# Altium footprint library Connector.PcbLib: 45 footprints (part 2 of 3)
Each footprint in its own frame and in the unit in brackets; x right, y up, seen from the top. Pads: shape width x height; smd on the part's side, far side on the other; paste and mask are expansions set on the pad; w line width, h text height; cw(c..) or ccw(c..) is an arc to the next point about the centre after c.
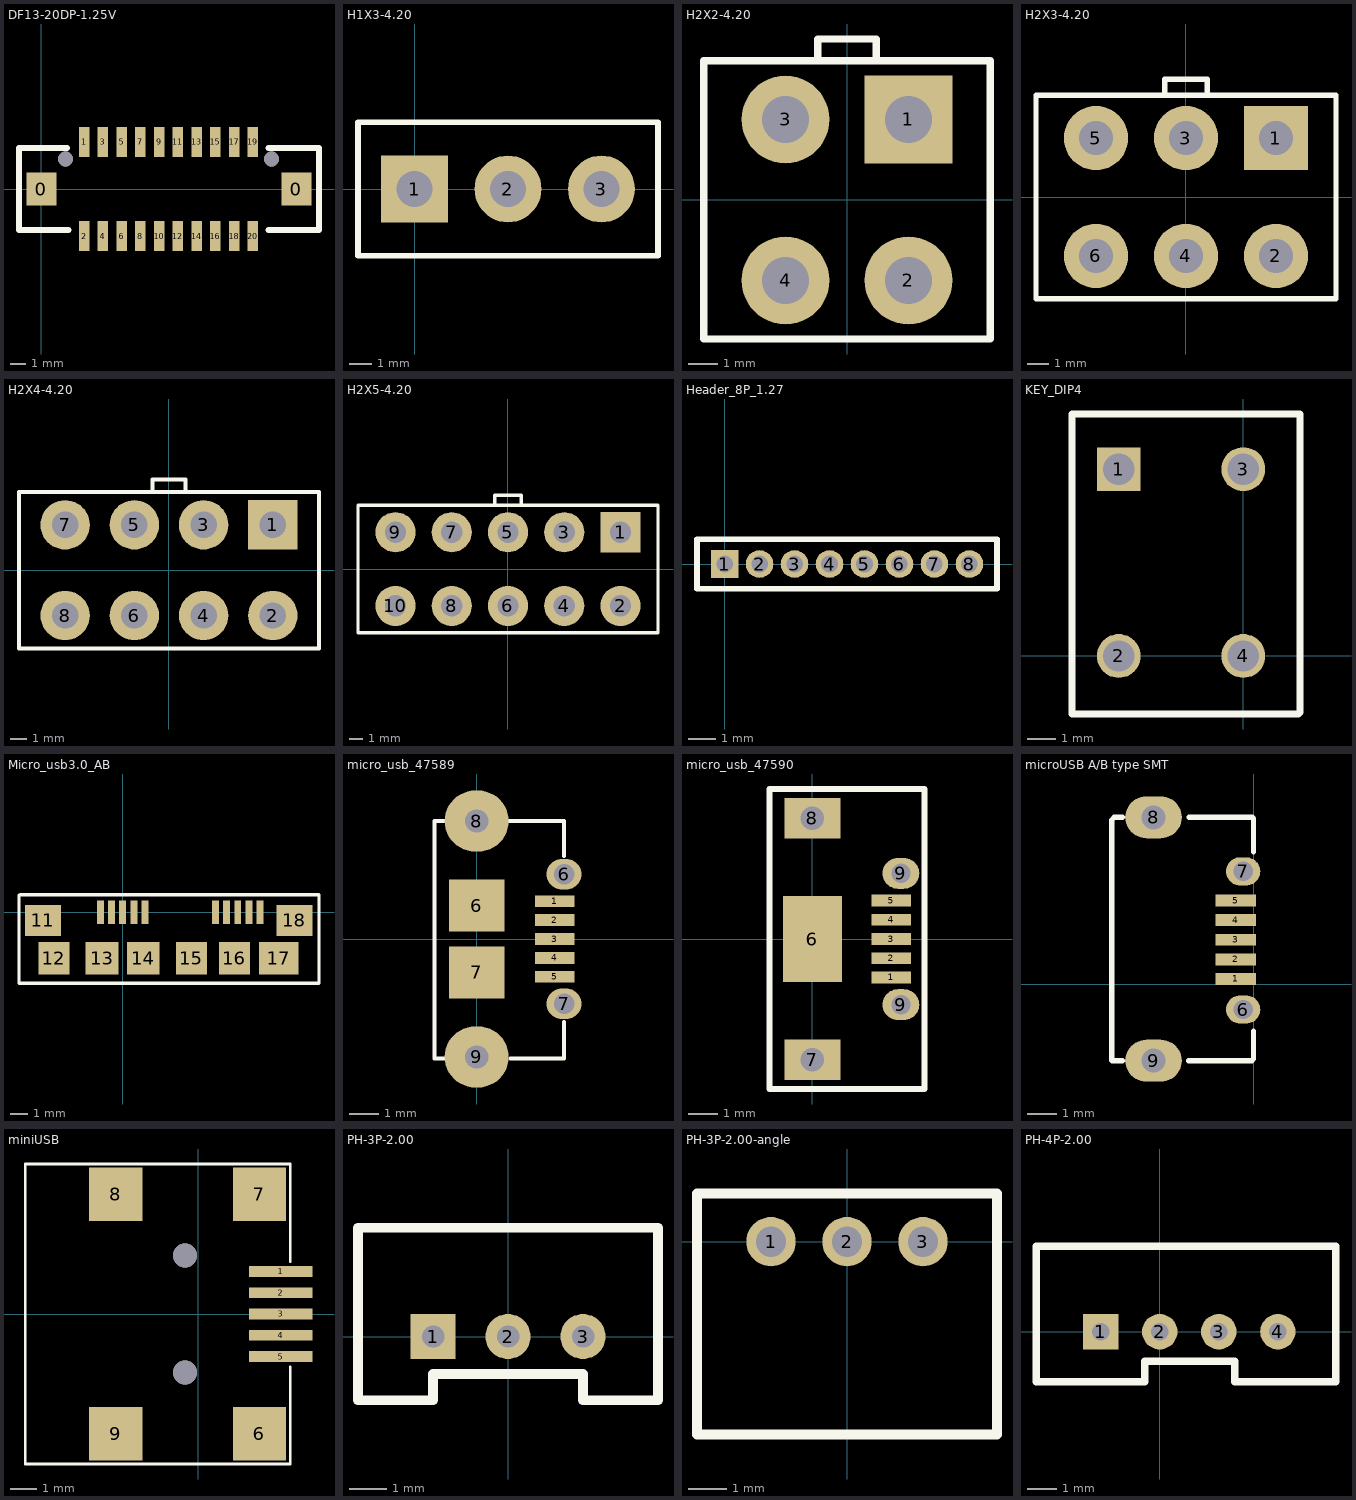
[diagram p1: the footprints below, top view; thin cyan lines are the x and y axes]

## DF13-20DP-1.25V [mm]
pads (22):
  rect 2x2.2 smd: 0(0,0) 0(17,0)
  rect 0.7x2 smd: 1(2.85,3.15) 2(2.85,-3.15) 3(4.1,3.15) 4(4.1,-3.15) 5(5.35,3.15) 6(5.35,-3.15) 7(6.6,3.15) 8(6.6,-3.15) 9(7.85,3.15) 10(7.85,-3.15) 11(9.1,3.15) 12(9.1,-3.15) 13(10.35,3.15) 14(10.35,-3.15) 15(11.6,3.15) 16(11.6,-3.15) 17(12.85,3.15) 18(12.85,-3.15) 19(14.1,3.15) 20(14.1,-3.15)
via 15.35,2 diameter 1 hole 1
via 1.6,2 diameter 1 hole 1
Top Overlay:
  lines w0.4: 1.7,2.75 -1.5,2.75 -1.5,-2.75 1.8,-2.75 ; 15.15,-2.75 18.5,-2.75 18.5,2.75 15.15,2.75

## H1X3-4.20 [mm]
pads (3):
  rect 3x3 hole 1.6: 1(0,0)
  round 3 hole 1.6: 2(4.2,0) 3(8.4,0)
Top Overlay:
  lines w0.254: -2.54,-3 -2.54,3 10.94,3 10.94,-3 -2.54,-3

## H2X2-4.20 [mm]
pads (4):
  rect 3x3 hole 1.6: 1(2.1,2.75)
  round 3 hole 1.6: 2(2.1,-2.75) 3(-2.1,2.75) 4(-2.1,-2.75)
Top Overlay:
  lines w0.254: -1,4.75 -1,5.5 1,5.5 1,4.75 ; -4.9,-4.75 4.9,-4.75 4.9,4.75 -4.9,4.75 -4.9,-4.75

## H2X3-4.20 [mm]
pads (6):
  rect 3x3 hole 1.6: 1(4.2,2.75)
  round 3 hole 1.6: 2(4.2,-2.75) 3(0,2.75) 4(0,-2.75) 5(-4.2,2.75) 6(-4.2,-2.75)
Top Overlay:
  lines w0.254: -1,4.75 -1,5.5 1,5.5 1,4.75 ; -7,-4.75 -7,4.75 7,4.75 7,-4.75 -7,-4.75

## H2X4-4.20 [mm]
pads (8):
  rect 3x3 hole 1.6: 1(6.3,2.75)
  round 3 hole 1.6: 2(6.3,-2.75) 3(2.1,2.75) 4(2.1,-2.75) 5(-2.1,2.75) 6(-2.1,-2.75) 7(-6.3,2.75) 8(-6.3,-2.75)
Top Overlay:
  lines w0.254: -1,4.75 -1,5.5 1,5.5 1,4.75 ; -9.1,-4.75 -9.1,4.75 9.1,4.75 9.1,-4.75 -9.1,-4.75

## H2X5-4.20 [mm]
pads (10):
  rect 3x3 hole 1.6: 1(8.4,2.75)
  round 3 hole 1.6: 2(8.4,-2.75) 3(4.2,2.75) 4(4.2,-2.75) 5(0,2.75) 6(0,-2.75) 7(-4.2,2.75) 8(-4.2,-2.75) 9(-8.4,2.75) 10(-8.4,-2.75)
Top Overlay:
  lines w0.254: -1,4.75 -1,5.5 1,5.5 1,4.75 ; -11.2,-4.75 -11.2,4.75 11.2,4.75 11.2,-4.75 -11.2,-4.75

## Header_8P_1.27 [mm]
pads (8):
  rect 1x1 hole 0.6: 1(0,0)
  round 1 hole 0.6: 2(1.27,0) 3(2.54,0) 4(3.81,0) 5(5.08,0) 6(6.35,0) 7(7.62,0) 8(8.89,0)
Top Overlay:
  lines w0.203: -1,-0.9 9.89,-0.9 9.89,0.9 -1,0.9 -1,-0.9

## KEY_DIP4 [mm]
pads (4):
  rect 1.55x1.55 hole 1.1: 1(-4.4,6.6)
  round 1.55 hole 1.1: 2(-4.4,0) 3(0,6.6) 4(0,0)
Top Overlay:
  lines w0.254: 1.275,-2.05 1.95,-2.05 2,-2 2,8.55 1.425,8.55 -6.05,8.55 -6.05,-2.05 1.575,-2.05

## Micro_usb3.0_AB [mm]
pads (18):
  rect 0.4x1.35 smd: 1(-1.3,0) 2(-0.65,0) 3(0,0) 4(0.65,0) 5(1.3,0) 6(5.4,0) 7(6.05,0) 8(6.7,0) 9(7.35,0) 10(8,0)
  rect 2.1x1.8 smd: 11(-4.65,-0.475) 18(10,-0.475)
  rect 1.8x1.9 smd: 12(-4,-2.675) 15(4,-2.675) 16(6.5,-2.675)
  rect 1.9x1.9 smd: 13(-1.2,-2.675) 14(1.2,-2.675)
  rect 2.3x1.9 smd: 17(9.1,-2.675)
Top Overlay:
  lines w0.203: -6.035,-4.125 11.43,-4.125 11.43,1.016 -5.974,1.016 -6.035,0.955 -6.035,-4.125

## micro_usb_47589 [mm]
pads (11):
  rect 1.35x0.4 smd: 1(2.675,1.3) 2(2.675,0.65) 3(2.675,0) 4(2.675,-0.65) 5(2.675,-1.3)
  rect 1.9x1.8 smd: 6(0,1.15) 7(0,-1.15)
  oval 1.2x1.05 hole 0.7: 6(3,2.225) 7(3,-2.225)
  oval 2.2x2.1 hole 0.8: 8(0,4.05) 9(0,-4.05)
Top Overlay:
  lines w0.127: -1.05,-4.1 -1.45,-4.1 -1.45,4.05 -1.05,4.05 ; 1.05,4.05 3,4.05 3,2.85 ; 1.15,-4.1 3,-4.1 3,-2.85

## micro_usb_47590 [mm]
pads (10):
  rect 1.35x0.4 smd: 1(2.675,-1.3) 2(2.675,-0.65) 3(2.675,0) 4(2.675,0.65) 5(2.675,1.3)
  rect 2x2.9 smd: 6(0,0)
  rect 1.9x1.375 hole 0.8: 7(0,-4.088) 8(0,4.088)
  oval 1.25x1.05 hole 0.65: 9(3,-2.225) 9(3,2.225)
Top Overlay:
  lines w0.2: -1.45,-5.08 -1.45,5.08 3.8,5.08 3.8,-5.08 -1.45,-5.08

## microUSB A/B type SMT [mm]
pads (9):
  rect 1.35x0.4 smd: 1(-0.6,0.175) 2(-0.6,0.831) 3(-0.6,1.488) 4(-0.6,2.144) 5(-0.6,2.8)
  oval 1.15x0.95 hole 0.65: 6(-0.35,-0.85) 7(-0.35,3.775)
  oval 1.9x1.4 hole 0.8: 8(-3.35,5.587) 9(-3.35,-2.563)
Top Overlay:
  lines w0.177: -4.675,5.575 -4.75,5.5 -4.75,-2.551 -4.738,-2.563 -4.4,-2.563 ; -4.663,5.587 -4.4,5.587 ; -2.175,-2.563 -0.062,-2.563 0,-2.501 0,-1.575 ; -2.15,5.587 -0.038,5.587 0,5.549 0,4.425

## miniUSB [mm]
pads (9):
  rect 2.4x0.4 smd: 1(3.1,1.6) 2(3.1,0.8) 3(3.1,0) 4(3.1,-0.8) 5(3.1,-1.6)
  rect 2x2 smd: 6(2.3,-4.5) 7(2.3,4.5) 8(-3.1,4.5) 9(-3.1,-4.5)
via -0.5,-2.2 diameter 0.9 hole 0.9
via -0.5,2.2 diameter 0.9 hole 0.9
Top Overlay:
  lines w0.1: 3.454,-1.981 3.454,-5.639 -6.5,-5.639 -6.5,5.639 3.454,5.639 3.454,1.974

## PH-3P-2.00 [mm]
pads (3):
  rect 1.2x1.2 hole 0.6: 1(-2,0)
  round 1.2 hole 0.6: 2(0,0) 3(2,0)
Top Overlay:
  lines w0.254: -4,-1.7 -2,-1.7 -2,-1 2,-1 2,-1.7 4,-1.7 4,2.9 -4,2.9 -4,-1.7

## PH-3P-2.00-angle [mm] "接插件 直插 弯脚"
height 4.8
pads (3):
  round 1.3 hole 0.8: 1(-2,0) 2(0,0) 3(2,0)
Top Overlay:
  lines w0.254: -3.95,-5.08 3.95,-5.08 3.95,1.27 -3.95,1.27 -3.95,-5.08

## PH-4P-2.00 [mm]
pads (4):
  rect 1.2x1.2 hole 0.6: 1(-2,0)
  round 1.2 hole 0.6: 2(0,0) 3(2,0) 4(4,0)
Top Overlay:
  lines w0.254: -4.191,-1.7 -0.508,-1.7 -0.508,-1 2.54,-1 2.54,-1.7 5.969,-1.7 5.969,2.9 -4.191,2.9 -4.191,-1.7